# EAGLE library part ML32 (library con-32)
32-poliger Steckverbinder
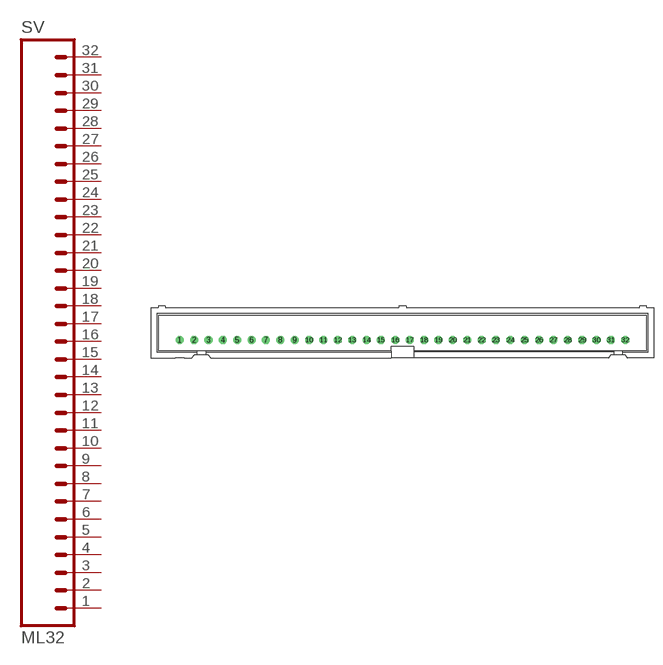
[diagram p0: symbol with the pads of ML32; footprint ML32]

Designator prefix SV

## ML32 (OC_FARNELL: unknown; OC_NEWARK: unknown)  [ML32]
1  1  pas
2  2  pas
3  3  pas
4  4  pas
5  5  pas
6  6  pas
7  7  pas
8  8  pas
9  9  pas
10  10  pas
11  11  pas
12  12  pas
13  13  pas
14  14  pas
15  15  pas
16  16  pas
17  17  pas
18  18  pas
19  19  pas
20  20  pas
21  21  pas
22  22  pas
23  23  pas
24  24  pas
25  25  pas
26  26  pas
27  27  pas
28  28  pas
29  29  pas
30  30  pas
31  31  pas
32  32  pas

## Footprint ML32 (pad centres in mm)
32-poliger Steckverbinder
drill 0.914 octagon: 1 -39.37,-1.27; 2 -36.83,-1.27; 3 -34.29,-1.27; 4 -31.75,-1.27; 5 -29.21,-1.27; 6 -26.67,-1.27; 7 -24.13,-1.27; 8 -21.59,-1.27; 9 -19.05,-1.27; 10 -16.51,-1.27; 11 -13.97,-1.27; 12 -11.43,-1.27; 13 -8.89,-1.27; 14 -6.35,-1.27; 15 -3.81,-1.27; 16 -1.27,-1.27; 17 1.27,-1.27; 18 3.81,-1.27; 19 6.35,-1.27; 20 8.89,-1.27; 21 11.43,-1.27; 22 13.97,-1.27; 23 16.51,-1.27; 24 19.05,-1.27; 25 21.59,-1.27; 26 24.13,-1.27; 27 26.67,-1.27; 28 29.21,-1.27; 29 31.75,-1.27; 30 34.29,-1.27; 31 36.83,-1.27; 32 39.37,-1.27